# Altium schematic symbol library tlv379idckr.SchLib: 1 symbol
Pins are listed as number, name and electrical type; pins without a type are passive.

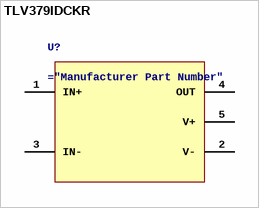
[diagram p0: symbol TLV379IDCKR]

## TLV379IDCKR
designator U?
Low-Voltage, 4-μA, Rail-to-Rail I/O Operational Amplifier for Cost-Sensitive Systems 5-SC70 -40 to 125
pins: 1 IN+, 2 V-, 3 IN-, 4 OUT, 5 V+